# Altium schematic symbol library PS,DC-DC,12Vout,1W,PDSE1-S5-S12-S.SchLib: 1 symbol
Pins are listed as number, name and electrical type; pins without a type are passive.

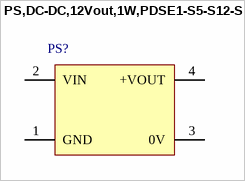
[diagram p0: symbol PS,DC-DC,12Vout,1W,PDSE1-S5-S12-S]

## PS,DC-DC,12Vout,1W,PDSE1-S5-S12-S
designator PS?
pins: 1 GND (power), 2 VIN (power), 3 0V (power), 4 +VOUT (power)